# Altium schematic symbol library CC0402KRX7R7BB104.SchLib: 1 symbol
Pins are listed as number, name and electrical type; pins without a type are passive.

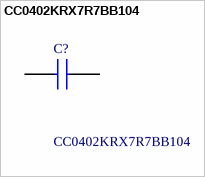
[diagram p0: symbol CC0402KRX7R7BB104]

## CC0402KRX7R7BB104
designator C?
Multilayer Ceramic Capacitors MLCC - SMD/SMT 16 V 0.1uF X7R 0402 10%; Manufacturer_Name: Yageo Group; Geometry.Height: 0.55mm; Mouser Part Number: 603-CC402KRX7R7BB104; Mouser Price/Stock: https://www.mouser.co.uk/ProductDetail/YAGEO/CC0402KRX7R7BB104?qs=AgBp2OyFlx%252BSOyhfyS7hpw%3D%3D; Manufacturer_Part_Number: CC0402KRX7R7BB104; Datasheet Link: https://www.yageo.com/en/Chart/Download/pdf/CC0402KRX7R7BB104
footprint CAPC1005X55N
pins: 1, 2